# Altium schematic symbol library U-BLOX_Library.SchLib: 2 symbols
Pins are listed as number, name and electrical type; pins without a type are passive.

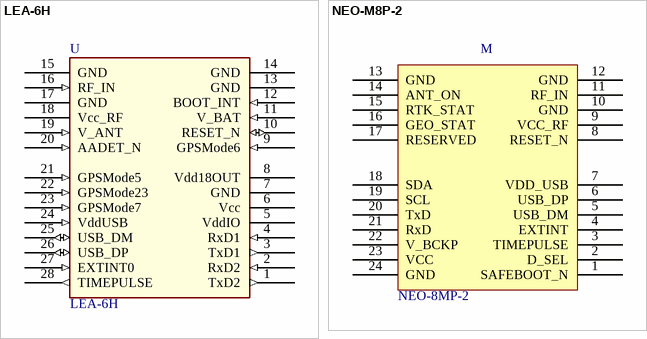
[diagram p0: symbols LEA-6H to NEO-M8P-2]

## LEA-6H
designator U  value LEA-6H  (hidden comment: *)
Manufacturer Code: LEA-6H-0; Manufacturer: UBLOX; Unit Price: 95,00 €
footprint U-BLOX LEA-4S
pins: 1 TxD2 (out), 2 RxD2 (in), 3 TxD1 (out), 4 RxD1 (in), 5 VddIO, 6 Vcc, 7 GND (power), 8 Vdd18OUT (oe), 9 GPSMode6 (in), 10 RESET_N (io), 11 V_BAT (in), 12 BOOT_INT (in), 13 GND (power), 14 GND (power), 15 GND (power), 16 RF_IN (in), 17 GND (power), 18 Vcc_RF (oe), 19 V_ANT (in), 20 AADET_N (in), 21 GPSMode5 (in), 22 GPSMode23 (in), 23 GPSMode7 (in), 24 VddUSB (in), 25 USB_DM (io), 26 USB_DP (io), 27 EXTINT0 (in), 28 TIMEPULSE (out)

## NEO-M8P-2
designator M  value NEO-8MP-2  (hidden comment: *)
Manufacturer: U-BLOX; Manufacturer Code: NEO-8MP-2; Unit Price: 189 €
footprint NEO-8MP-2 (Footprint not found)
pins: 1 SAFEBOOT_N, 2 D_SEL, 3 TIMEPULSE, 4 EXTINT, 5 USB_DM, 6 USB_DP, 7 VDD_USB, 8 RESET_N, 9 VCC_RF, 10 GND, 11 RF_IN, 12 GND, 13 GND, 14 ANT_ON, 15 RTK_STAT, 16 GEO_STAT, 17 RESERVED, 18 SDA, 19 SCL, 20 TxD, 21 RxD, 22 V_BCKP, 23 VCC, 24 GND